# Altium footprint library PCB1.PcbLib: 38 footprints (part 2 of 3)
Each footprint in its own frame and in the unit in brackets; x right, y up, seen from the top. Pads: shape width x height; smd on the part's side, far side on the other; paste and mask are expansions set on the pad; w line width, h text height; cw(c..) or ccw(c..) is an arc to the next point about the centre after c.
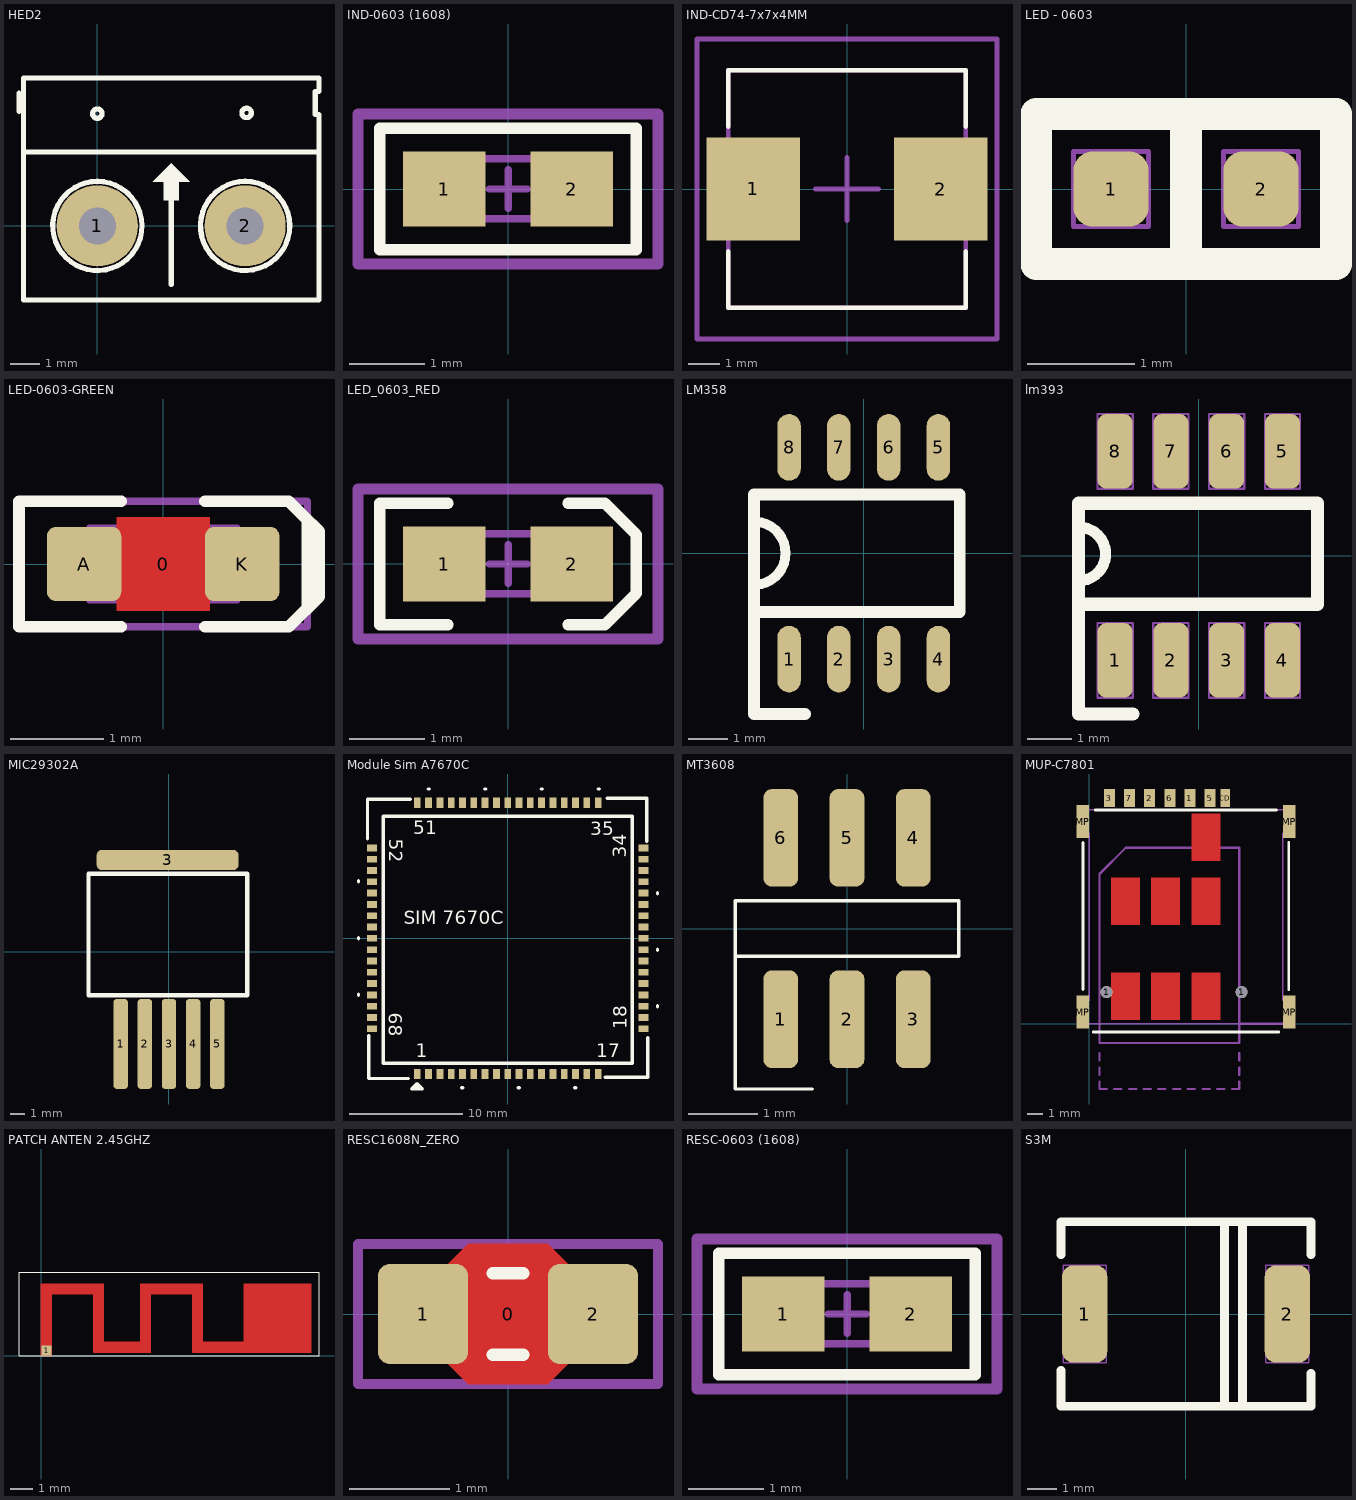
[diagram p1: the footprints below, top view; thin cyan lines are the x and y axes]

## HED2 [mil] "Header 2, 2 pin, hight 300mil, Pin to Pin 200, Colour Green"
height 300
pads (2):
  round 110 hole 50: 1(0,0) 2(200,0)
Top Overlay:
  circle w7: c202,153 r6.4
  circle w7: c0,152 r6.4
  region: 100,85 75,60 90,60 90,35 110,35 110,60 125,60
  lines w7: -106,155 -106,180 ; -98,100 299,100 ; 38.83,46.23 ccw(c0,0) 40.11,45.12 ; 100,-79 100,72 ; 238.74,46.3 ccw(c200,0) 240.11,45.12 ; -100,-100 -100,50 -100,200 300,200 300,182 295,182 295,151 300,151 300,-100 -100,-100
3D body "SW3dPS-KRM2.STEP": height 393.7, standoff -157.48, extent -91.85,-90 301.85,205.28

## IND-0603 (1608) [mm] "Resistor, Chip; 1.60 mm L X 0.80 mm W X 0.50 mm H body"
height 0.5
pads (2):
  rect 1.1x1 smd mask+0.1: 1(-0.85,0) 2(0.85,0)
Top Overlay:
  lines w0.15: -1.71,-0.81 -1.71,0.81 1.71,0.81 1.71,-0.81 -1.71,-0.81
Top 3D Body:
  lines w0.1: -0.253,0 0.255,0 ; 0.001,-0.254 0.001,0.254 ; -0.799,-0.4 -0.799,0.4 0.801,0.4 0.801,-0.4 -0.799,-0.4
Top Courtyard:
  lines w0.15: -2,-1 -2,1 2,1 2,-1 -2,-1
  text ".Designator" at -1.015,-0.305 h1.2
3D body "Coilcraft-0603AF.step": height 0.9, standoff -0.01, extent -0.919,-0.56 0.921,0.56

## IND-CD74-7x7x4MM [mm]
height 5
pads (2):
  rect 3x3.3 smd: 1(-3,0) 2(3,0)
Top Overlay:
  lines w0.15: -3.8,2 -3.8,3.8 3.8,3.8 3.8,2 ; 3.8,-2 3.8,-3.8 -3.8,-3.8 -3.8,-2 ; -3.8,-2 -3.8,-2
Top 3D Body:
  lines w0.15: -1.016,0 1.016,0 ; 0,-1.016 0,1.016 ; 3.8,3.8 3.8,-3.8 -3.8,-3.8 -3.8,3.8 3.8,3.8 ; 3.8,3.8 3.8,3.8
Top Courtyard:
  lines w0.15: -4.8,-4.8 4.8,-4.8 4.8,4.8 -4.8,4.8 -4.8,-4.8
  text ".Designator" at -2.4,-0.7 h1.2
3D body "User Library-Cooper Bussman DR74 Series Inductor.STEP": height 4.63, standoff 0.02, extent -3.8,-3.8 3.8,3.8

## LED - 0603 [mm]
pads (2):
  rrect50% 0.7x0.7 smd: 1(-0.7,0) 2(0.7,0)
Top Overlay:
  lines w0.3: 0,-0.7 0,0.7 ; -1.4,-0.7 1.4,-0.7 1.4,0.7 0.2,0.7 -1.4,0.7 -1.4,-0.7
Mechanical 1:
  lines w0.05: -1.05,-0.35 -0.7,-0.35 -0.35,-0.35 -0.35,0.35 -1.05,0.35 -1.05,-0.35 ; 0.35,-0.35 0.35,0.35 0.7,0.35 1.05,0.35 1.05,-0.35 0.35,-0.35
3D body "LED0603_Orange.step": height 0.9, standoff 0, extent -0.85,-0.45 0.85,0.45

## LED-0603-GREEN [mm]
height 0.8
pads (3):
  round 0.254 on Mech15: 0(0,0)
  rrect25% 0.8x0.8 smd: A(-0.85,0) K(0.85,0)
Top Layer:
  pour cut-out: -0.5,0.5 0.5,0.5 0.5,-0.5 -0.5,-0.5
Top Overlay:
  lines w0.127: -0.45,-0.675 -1.55,-0.675 -1.55,0.675 -0.45,0.675 ; 0.45,-0.675 1.35,-0.675 1.55,-0.475 1.55,0.475 1.35,0.675 0.45,0.675 ; 1.5,0.525 1.675,0.35 1.675,-0.35 1.525,-0.5
Mechanical 13:
  lines w0.05: -0.6,-0.4 -0.6,0.399 0.6,0.4 0.6,-0.4 -0.6,-0.399 ; -0.505,-0.398 -0.505,0.398 ; -0.5,-0.4 -0.8,-0.4 -0.8,0.4 -0.5,0.4 ; 0.5,-0.4 0.8,-0.4 0.8,0.4 0.5,0.4 ; 0.505,-0.398 0.505,0.398 ; -0.599,-0.398 -0.599,0.398 0.599,0.398 0.599,-0.398 -0.599,-0.398
Top Courtyard:
  lines w0.076: -1.55,-0.675 1.55,-0.675 1.55,0.675 -1.55,0.675 -1.55,-0.675
3D body "LED 0603 APT1608 GREEN.STEP": height 0.75, standoff 0, extent -0.8,-0.4 0.8,0.4

## LED_0603_RED [mm] "LED SMD; Body 1.6 x 0.8 mm (LxW typ)"
height 0.75
pads (2):
  rect 1.1x1 smd mask+0.1: 1(-0.851,0) 2(0.849,0)
Top Overlay:
  lines w0.15: -0.801,-0.81 -1.711,-0.81 -1.711,0.81 -0.801,0.81 ; 0.799,-0.81 1.29,-0.81 1.709,-0.391 1.709,0.391 1.29,0.81 0.799,0.81
Top 3D Body:
  lines w0.1: -0.254,0 0.254,0 ; 0,-0.254 0,0.254 ; -0.8,-0.4 -0.8,0.4 0.8,0.4 0.8,-0.4 -0.8,-0.4
Top Courtyard:
  lines w0.15: -2.001,-1 -2.001,1 1.999,1 1.999,-1 -2.001,-1
  text ".Designator" at -1.2,-0.254 h1.2
3D body: height 0.18, standoff 0, extent -0.8,-0.4 0.8,0.4
3D body: height 0.75, standoff 0.18, extent -0.6,-0.4 0.6,0.4

## LM358 [mm]
pads (8):
  oval 0.6x1.7 smd: 1(-1.905,-2.7) 2(-0.635,-2.7) 3(0.635,-2.7) 4(1.905,-2.7) 5(1.905,2.7) 6(0.635,2.7) 7(-0.635,2.7) 8(-1.905,2.7)
Top Overlay:
  lines w0.254: -2.75,-0.806 ccw(c-2.8,0) -2.75,0.806
  lines w0.3: -1.5,-4.1 -2.8,-4.1 -2.8,-1.5 ; -2.8,-1.5 2.45,-1.5 2.45,1.5 -2.8,1.5 -2.8,-1.5
3D body "LM358D.stp": height 1.63, standoff 0, extent -2.451,-3.011 2.451,3.011

## lm393 [mm]
pads (8):
  rrect50% 0.8x1.7 smd: 1(-1.905,-2.38) 2(-0.635,-2.38) 3(0.635,-2.38) 4(1.905,-2.38) 5(1.905,2.38) 6(0.635,2.38) 7(-0.635,2.38) 8(-1.905,2.38)
Top Overlay:
  lines w0.254: -2.728,-0.564 ccw(c-2.728,0.044) -2.728,0.653
  lines w0.3: -2.731,-1.1 2.7,-1.1 2.7,1.2 -2.731,1.2 -2.739,1.192 -2.739,-3.6 -1.5,-3.6
Mechanical 1:
  lines w0.05: -2.105,-1.53 -1.505,-1.53 -1.505,-3.23 -2.305,-3.23 -2.305,-1.53 -1.905,-1.53 ; -1.905,1.53 -1.505,1.53 -1.505,3.23 -2.305,3.23 -2.305,1.53 -1.705,1.53 ; -0.835,-1.53 -0.235,-1.53 -0.235,-3.23 -1.035,-3.23 -1.035,-1.53 -0.635,-1.53 ; -0.635,1.53 -0.235,1.53 -0.235,3.23 -1.035,3.23 -1.035,1.53 -0.435,1.53 ; 0.435,-1.53 1.035,-1.53 1.035,-3.23 0.235,-3.23 0.235,-1.53 0.635,-1.53 ; 0.635,1.53 1.035,1.53 1.035,3.23 0.235,3.23 0.235,1.53 0.835,1.53 ; 1.705,-1.53 2.305,-1.53 2.305,-3.23 1.505,-3.23 1.505,-1.53 1.905,-1.53 ; 1.905,1.53 2.305,1.53 2.305,3.23 1.505,3.23 1.505,1.53 2.105,1.53
3D body "LM393D.stp": height 1.63, standoff 0, extent -2.451,-3.011 2.451,3.011

## MIC29302A [mm]
pads (6):
  rrect50% 1.02x6.35 smd: 1(-3.4,-6.477) 2(-1.7,-6.477) 3(0,-6.477) 4(1.7,-6.477) 5(3.4,-6.477)
  rrect50% 10x1.4 smd: 3(-0.098,6.477)
Top Overlay:
  lines w0.05: 5.507,5.505 5.509,5.502
  lines w0.3: -5.671,5.505 -5.671,-3.057 5.509,-3.057 5.509,5.502 ; -5.666,5.505 -0.076,5.505 5.507,5.505
3D body "User Library-MIC29302.STEP": height 4.36, standoff 0.05, extent -4.894,-6.366 4.758,7.101

## Module Sim A7670C [mm] "Module Sim A7670C"
height 15
pads (68):
  rect 0.6x0.9 smd mask+0.1: 1(-8,-12) 2(-7,-12) 3(-6,-12) 4(-5,-12) 5(-4,-12) 6(-3,-12) 7(-2,-12) 8(-1,-12) 9(0,-12) 10(1,-12) 11(2,-12) 12(3,-12) 13(4,-12) 14(5,-12) 15(6,-12) 16(7,-12) 17(8,-12) 35(8,12) 36(7,12) 37(6,12) 38(5,12) 39(4,12) 40(3,12) 41(2,12) 42(1,12) 43(0,12) 44(-1,12) 45(-2,12) 46(-3,12) 47(-4,12) 48(-5,12) 49(-6,12) 50(-7,12) 51(-8,12)
  rect 0.9x0.6 smd mask+0.1: 18(12,-8) 19(12,-7) 20(12,-6) 21(12,-5) 22(12,-4) 23(12,-3) 24(12,-2) 25(12,-1) 26(12,0) 27(12,1) 28(12,2) 29(12,3) 30(12,4) 31(12,5) 32(12,6) 33(12,7) 34(12,8) 52(-12,8) 53(-12,7) 54(-12,6) 55(-12,5) 56(-12,4) 57(-12,3) 58(-12,2) 59(-12,1) 60(-12,0) 61(-12,-1) 62(-12,-2) 63(-12,-3) 64(-12,-4) 65(-12,-5) 66(-12,-6) 67(-12,-7) 68(-12,-8)
Top Overlay:
  lines w0.3: -13.2,-5.04 -13.2,-4.94 ; -13.2,-0.05 -13.2,0.05 ; -13.2,4.98 -13.2,5.08 ; -12.4,8.8 -12.4,12.3 -8.6,12.3 ; -12.3,-8.6 -12.3,-12.4 -8.8,-12.4 ; -11,-10.85 -11,10.8 11,10.8 11,-11.05 -11,-11.05 -11,-0.65 ; -8.2,-13.3 -7.9,-13 ; -7.03,13.21 -6.93,13.21 ; -4.07,-13.21 -3.97,-13.21 ; -2.03,13.21 -1.93,13.21 ; 0.94,-13.21 1.04,-13.21 ; 2.97,13.21 3.07,13.21 ; 5.94,-13.21 6.04,-13.21 ; 7.99,13.21 8.09,13.21 ; 8.6,-12.3 12.4,-12.3 12.4,-8.8 ; 8.8,12.4 12.3,12.4 12.3,8.6 ; 13.25,-6.06 13.25,-5.96 ; 13.25,-1.06 13.25,-0.96 ; 13.25,3.93 13.25,4.03 ; -8.475,-13.325 -7.575,-13.325 -8.025,-12.875 -8.475,-13.325
  text "SIM 7670C" at -9.21,1.23 h1.2
  text "51" at -8.34,9.22 h1.2
  text "52" at -10.47,8.81 h1.2
  text "35" at 7.31,9.12 h1.2
  text "34" at 10.5,7.144 h1.2
  text "68" at -10.52,-6.56 h1.2
  text "1" at -8.14,-10.51 h1.2
  text "18" at 10.54,-8.06 h1.2
  text "17" at 7.81,-10.51 h1.2
3D body "User Library-A7670.STEP": height 2.3, standoff 0, extent -12,-12 12,12

## MT3608 [mm]
pads (6):
  rrect50% 0.5x1.4 smd: 1(-0.95,-1.3) 2(0,-1.3) 3(0.95,-1.3) 4(0.95,1.3) 5(0,1.3) 6(-0.95,1.3)
Top Overlay:
  lines w0.05: -0.5,-2.3 -1.6,-2.3 -1.6,-0.4 ; 0,0.4 1.6,0.4 1.6,-0.4 -1.6,-0.4 ; 0.75,0.4 -1.6,0.4 -1.6,-0.4
3D body "MT3608.stp": height 1.45, standoff 0, extent -1.45,-1.4 1.45,1.4

## MUP-C7801 [mm]
pads (13):
  round 0.75 hole 0.75 unplated mask+0.102: 1(1.1,2) 1(9.6,2)
  rect 0.7x1.14 smd: 1(6.35,14.23) 2(3.81,14.23) 3(1.27,14.23) 5(7.62,14.23) 6(5.08,14.23) 7(2.54,14.23)
  rect 0.6x1.14 smd: CD(8.57,14.23)
  rect 0.8x2.1 smd: MP(-0.4,0.75) MP(-0.4,12.75) MP(12.6,0.75) MP(12.6,12.75)
Top Layer:
  pour cut-out: 1.38,0.275 1.38,3.225 3.18,3.225 3.18,0.275
  pour cut-out: 3.92,0.275 3.92,3.225 5.72,3.225 5.72,0.275
  pour cut-out: 6.46,0.275 6.46,3.225 8.26,3.225 8.26,0.275
  pour cut-out: 6.46,6.25 6.46,9.2 8.26,9.2 8.26,6.25
  pour cut-out: 3.92,6.25 3.92,9.2 5.72,9.2 5.72,6.25
  pour cut-out: 1.38,6.25 1.38,9.2 3.18,9.2 3.18,6.25
  pour cut-out: 6.46,10.275 6.46,13.225 8.26,13.225 8.26,10.275
Top Overlay:
  lines w0.178: -0.381,2.165 -0.381,11.436 ; 0.254,-0.502 11.938,-0.502 ; 0.381,13.468 11.811,13.468 ; 12.573,2.165 12.573,11.436
Top 3D Body:
  lines w0.1: -0.4,0 -0.4,1.5 0,1.5 0,12 -0.4,12 -0.4,13.5 12.6,13.5 12.6,12 12.2,12 12.2,1.5 12.6,1.5 12.6,0 -0.4,0
  lines w0.15: 9.45,0 12.2,0
Top Courtyard:
  lines w0.15: 0.65,-3.65 0.65,-4.1 1.1,-4.1 ; 0.65,-3.2 0.65,-2.75 ; 0.65,-2.3 0.65,-1.85 ; 1.578,-4.1 2.028,-4.1 ; 2.506,-4.1 2.956,-4.1 ; 3.433,-4.1 3.883,-4.1 ; 4.361,-4.1 4.811,-4.1 ; 5.289,-4.1 5.739,-4.1 ; 6.217,-4.1 6.667,-4.1 ; 7.144,-4.1 7.594,-4.1 ; 8.072,-4.1 8.522,-4.1 ; 9,-4.1 9.45,-4.1 9.45,-3.65 ; 9.45,-3.2 9.45,-2.75 ; 9.45,-2.3 9.45,-1.85 ; 0.65,-1.2 9.45,-1.2 9.45,11.1 2.3,11.1 0.65,9.45 0.65,-1.2
3D body: height 0.3, standoff 0.1, extent -0.4,12 0,13.5
3D body: height 0.3, standoff 0.1, extent 12.2,12 12.6,13.5
3D body: height 0.3, standoff 0.1, extent 12.2,0 12.6,1.5
3D body: height 0.3, standoff 0.1, extent -0.4,0 0,1.5
3D body: height 1.35, standoff 0.1, extent 0,0 12.2,13.5
3D body: height 0.4, standoff 0.01, extent 1.12,13.5 1.42,14.45
3D body: height 0.4, standoff 0.01, extent 2.39,13.5 2.69,14.45
3D body: height 0.4, standoff 0.01, extent 3.66,13.5 3.96,14.45
3D body: height 0.4, standoff 0.01, extent 4.93,13.5 5.23,14.45
3D body: height 0.4, standoff 0.01, extent 6.2,13.5 6.5,14.45
3D body: height 0.4, standoff 0.01, extent 7.47,13.5 7.77,14.45
3D body: height 0.4, standoff 0.01, extent 8.42,13.5 8.72,14.45

## PATCH ANTEN 2.45GHZ [mm]
pads (1):
  rect 0.45x0.45 smd mask+0.102: 1(0.225,0.225)
Top Layer:
  region: 0,0 0.45,0 0.45,2.75 2.318,2.75 2.318,0.156 4.868,0.156 4.868,2.75 6.736,2.75 6.736,0.156 12.004,0.156 12.004,3.2 9.036,3.2 9.036,0.606 7.186,0.606 7.186,3.2 4.418,3.2 4.418,0.606 2.768,0.606 2.768,3.2 0,3.2
  lines w0.02: 0,0 0,3.2 2.768,3.2 2.768,0.606 4.418,0.606 4.418,3.2 7.186,3.2 7.186,0.606 9.036,0.606 9.036,3.2 12.004,3.2 12.004,0.156 6.736,0.156 6.736,2.75 4.868,2.75 4.868,0.156 2.318,0.156 2.318,2.75 0.45,2.75 0.45,0 0,0
Top Overlay:
  lines w0.02: -1,0 12.354,0 12.354,3.7 -1,3.7 -1,0

## RESC1608N_ZERO [mm]
pads (3):
  round 0.254 on Mech15: 0(0,0)
  rrect25% 0.9x1 smd: 1(-0.85,0) 2(0.85,0)
Top Layer:
  pour cut-out: -0.6,0.5 -0.4,0.7 0.4,0.7 0.6,0.5 0.6,-0.5 0.4,-0.7 -0.4,-0.7 -0.6,-0.5
Top Overlay:
  lines w0.127: -0.152,-0.406 0.152,-0.406 ; -0.152,0.406 0.152,0.406
Mechanical 13:
  lines w0.05: -0.875,-0.475 -0.475,-0.475 -0.475,0.475 -0.875,0.475 -0.875,-0.475 ; -0.475,-0.474 0.475,-0.474 -0.475,-0.474 ; -0.475,0.474 0.475,0.474 -0.475,0.474 ; 0.475,-0.475 0.475,0.475 0.875,0.475 0.875,-0.475 0.475,-0.475
Top Courtyard:
  lines w0.1: -1.5,-0.7 1.5,-0.7 1.5,0.7 -1.5,0.7 -1.5,-0.7
3D body "RES 0603 (1608 metric).STEP": height 0.54, standoff -0.01, extent -0.875,-0.475 0.875,0.475

## RESC-0603 (1608) [mm]
pads (2):
  rect 1.1x1 smd mask+0.1: 1(-0.85,0) 2(0.85,0)
Top Overlay:
  lines w0.15: -1.71,-0.81 -1.71,0.81 1.71,0.81 1.71,-0.81 -1.71,-0.81
Top 3D Body:
  lines w0.1: -0.253,0 0.255,0 ; 0.001,-0.254 0.001,0.254 ; -0.799,-0.4 -0.799,0.4 0.801,0.4 0.801,-0.4 -0.799,-0.4
Top Courtyard:
  lines w0.15: -2,-1 -2,1 2,1 2,-1 -2,-1
  text ".Designator" at -1.015,-0.305 h1.2
3D body "RESC160X80X50L37.STEP": height 0.5, standoff 0, extent -0.799,-0.4 0.801,0.4

## S3M [mm]
pads (2):
  rrect50% 1.524x3.27 smd: 1(-3.405,0) 2(3.405,0)
Top Overlay:
  lines w0.3: -4.2,-1.9 -4.2,-3.1 4.2,-3.1 4.2,-2 ; -4.2,2 -4.2,3.1 4.2,3.1 4.2,2 ; 1.3,-3 1.3,2.9 ; 1.9,-3.1 1.9,2.9
Mechanical 1:
  lines w0.05: -4.131,-1.635 -2.679,-1.635 -2.679,1.635 -4.131,1.635 -4.131,-1.635 ; 2.679,-1.635 2.679,1.635 4.131,1.635 4.131,-1.635 2.679,-1.635
3D body "S3M.stp": height 2.85, standoff 0.2, extent -3.975,-2.95 3.975,2.95